# EAGLE library part SM12B-SRSS (library con-JST SH)
JST SH series header 1.00mm pitch disconnectable crimp style connectors, horizontal (side entry type), 12 pins
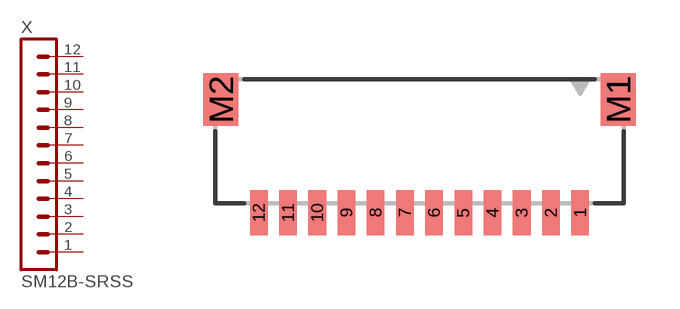
[diagram p16: symbol with the pads of SM12B-SRSS-TB; footprint SM12B-SRSS-TB]

Designator prefix X

## SM12B-SRSS-TB  [SM12B-SRSS-TB]
1  1  pas
2  2  pas
3  3  pas
4  4  pas
5  5  pas
6  6  pas
7  7  pas
8  8  pas
9  9  pas
10  10  pas
11  11  pas
12  12  pas

## Footprint SM12B-SRSS-TB (pad centres in mm)
JST SH series header 1.00mm pitch disconnectable crimp style connectors, SMT horizontal (side entry type), 12 pins
smd 0.6 x 1.55: 1 5.5,0; 2 4.5,0; 3 3.5,0; 4 2.5,0; 5 1.5,0; 6 0.5,0; 7 -0.5,0; 8 -1.5,0; 9 -2.5,0; 10 -3.5,0; 11 -4.5,0; 12 -5.5,0
smd 1.2 x 1.8: M1 6.8,3.875; M2 -6.8,3.875